# Altium footprint library C_sensor.PcbLib: 1 footprints
Each footprint in its own frame and in the unit in brackets; x right, y up, seen from the top. Pads: shape width x height; smd on the part's side, far side on the other; paste and mask are expansions set on the pad; w line width, h text height; cw(c..) or ccw(c..) is an arc to the next point about the centre after c.
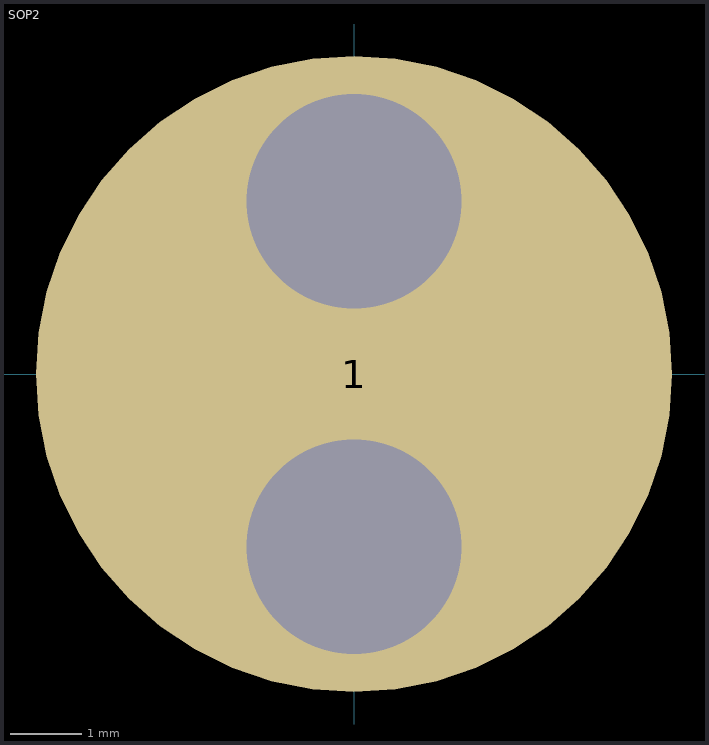
[diagram p0: the footprint, top view; thin cyan lines are the x and y axes]

## SOP2 [mil]
pads (1):
  round 350 all layers, no hole: 1(0,0)
via 0,-95 diameter 130 hole 118.11
via 0,95 diameter 130 hole 118.11